# Altium integrated library ASFLMB-16.000MHZ-XY-T.IntLib: 1 symbol
Pins are listed as number, name and electrical type; pins without a type are passive.

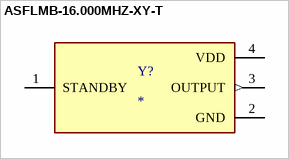
[diagram p0: symbol ASFLMB-16.000MHZ-XY-T]

## ASFLMB-16.000MHZ-XY-T
designator Y?
MP: ASFLMB-16.000MHZ-XY-T; Price: None; Value: *; Package: None; Availability: Unavailable
footprint XTAL_ASFLMB-16.000MHZ-XY-T
pins: 1 STANDBY, 2 GND (power), 3 OUTPUT (out), 4 VDD (power)